# EAGLE library part ATMEGA2560-16AU (library ATMEGA2560-16AU)
ATmega Series 16 MHz 256 KB Flash 8 KB SRAM 8-Bit Microcontroller - TQFP-100 Check prices <https://pricing.snapeda.com/parts/ATMEGA2560-16AU/Microchip/view-part?ref=eda>
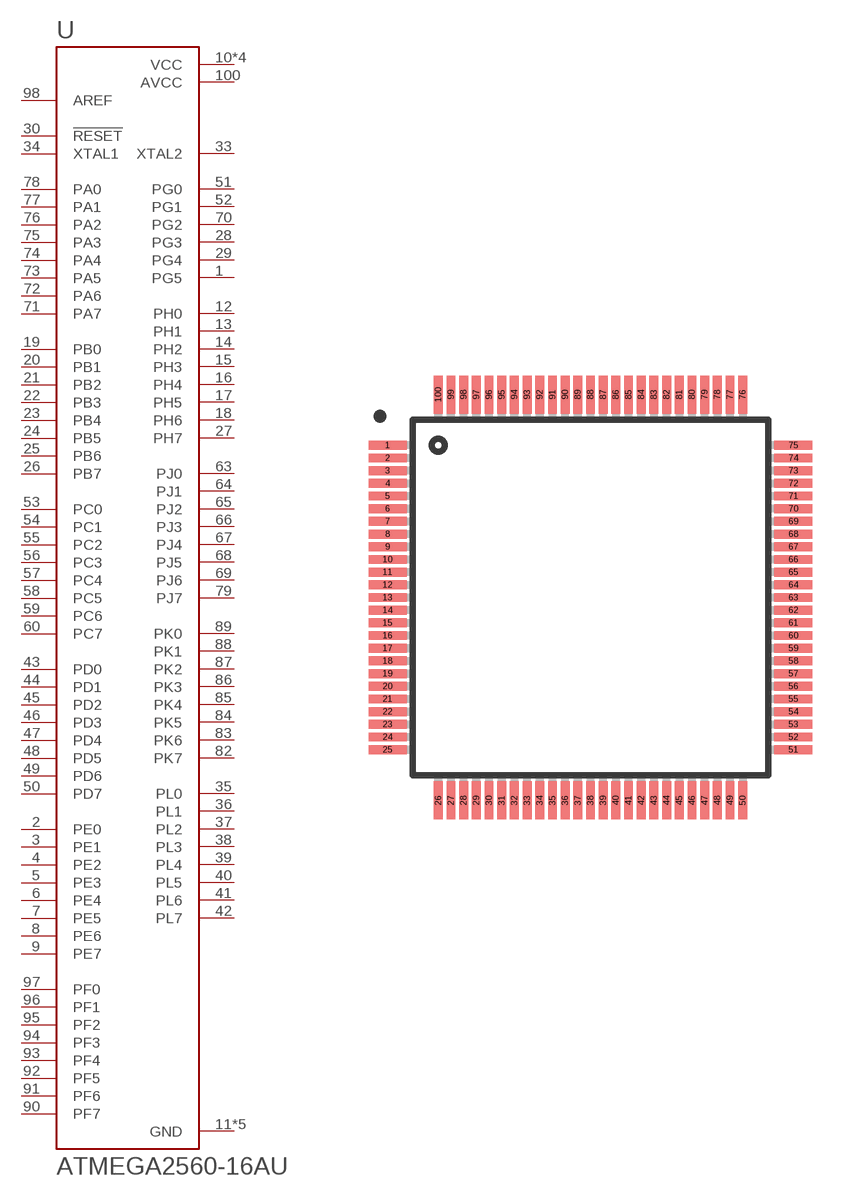
[diagram p0: symbol with the pads of QFP50P1600X1600X120-100N; footprint QFP50P1600X1600X120-100N]

Designator prefix U

## ATMEGA2560-16AU (Availability: In Stock; Description: AVR AVR® ATmega Microcontroller IC 8-Bit 16MHz 256KB (128K x 16) FLASH 100-TQFP (14x14); MF: Microchip; MP: ATMEGA2560-16AU; Package: TQFP-100 Microchip; Price: None; Purchase-URL: https://pricing.snapeda.com/search/part/ATMEGA2560-16AU/?ref=eda)  [QFP50P1600X1600X120-100N]
1  PG5
2  PE0
3  PE1
4  PE2
5  PE3
6  PE4
7  PE5
8  PE6
9  PE7
10  VCC  pwr
11  GND  pwr
12  PH0
13  PH1
14  PH2
15  PH3
16  PH4
17  PH5
18  PH6
19  PB0
20  PB1
21  PB2
22  PB3
23  PB4
24  PB5
25  PB6
26  PB7
27  PH7
28  PG3
29  PG4
30  !RESET  in
31  VCC  pwr
32  GND  pwr
33  XTAL2  out
34  XTAL1  in
35  PL0
36  PL1
37  PL2
38  PL3
39  PL4
40  PL5
41  PL6
42  PL7
43  PD0
44  PD1
45  PD2
46  PD3
47  PD4
48  PD5
49  PD6
50  PD7
51  PG0
52  PG1
53  PC0
54  PC1
55  PC2
56  PC3
57  PC4
58  PC5
59  PC6
60  PC7
61  VCC  pwr
62  GND  pwr
63  PJ0
64  PJ1
65  PJ2
66  PJ3
67  PJ4
68  PJ5
69  PJ6
70  PG2
71  PA7
72  PA6
73  PA5
74  PA4
75  PA3
76  PA2
77  PA1
78  PA0
79  PJ7
80  VCC  pwr
81  GND  pwr
82  PK7
83  PK6
84  PK5
85  PK4
86  PK3
87  PK2
88  PK1
89  PK0
90  PF7
91  PF6
92  PF5
93  PF4
94  PF3
95  PF2
96  PF1
97  PF0
98  AREF  in
99  GND  pwr
100  AVCC  pwr

## Footprint QFP50P1600X1600X120-100N (pad centres in mm)
smd 1.5 x 0.35: 1 -8,6; 2 -8,5.5; 3 -8,5; 4 -8,4.5; 5 -8,4; 6 -8,3.5; 7 -8,3; 8 -8,2.5; 9 -8,2; 10 -8,1.5; 11 -8,1; 12 -8,0.5; 13 -8,0; 14 -8,-0.5; 15 -8,-1; 16 -8,-1.5; 17 -8,-2; 18 -8,-2.5; 19 -8,-3; 20 -8,-3.5; 21 -8,-4; 22 -8,-4.5; 23 -8,-5; 24 -8,-5.5; 25 -8,-6; 51 8,-6; 52 8,-5.5; 53 8,-5; 54 8,-4.5; 55 8,-4; 56 8,-3.5; 57 8,-3; 58 8,-2.5; 59 8,-2; 60 8,-1.5; 61 8,-1; 62 8,-0.5; 63 8,0; 64 8,0.5; 65 8,1; 66 8,1.5; 67 8,2; 68 8,2.5; 69 8,3; 70 8,3.5; 71 8,4; 72 8,4.5; 73 8,5; 74 8,5.5; 75 8,6
smd 0.35 x 1.5: 26 -6,-8; 27 -5.5,-8; 28 -5,-8; 29 -4.5,-8; 30 -4,-8; 31 -3.5,-8; 32 -3,-8; 33 -2.5,-8; 34 -2,-8; 35 -1.5,-8; 36 -1,-8; 37 -0.5,-8; 38 0,-8; 39 0.5,-8; 40 1,-8; 41 1.5,-8; 42 2,-8; 43 2.5,-8; 44 3,-8; 45 3.5,-8; 46 4,-8; 47 4.5,-8; 48 5,-8; 49 5.5,-8; 50 6,-8; 76 6,8; 77 5.5,8; 78 5,8; 79 4.5,8; 80 4,8; 81 3.5,8; 82 3,8; 83 2.5,8; 84 2,8; 85 1.5,8; 86 1,8; 87 0.5,8; 88 0,8; 89 -0.5,8; 90 -1,8; 91 -1.5,8; 92 -2,8; 93 -2.5,8; 94 -3,8; 95 -3.5,8; 96 -4,8; 97 -4.5,8; 98 -5,8; 99 -5.5,8; 100 -6,8